# Altium footprint library DIOM794X590X262L114X305N.PcbLib: 1 footprints
Each footprint in its own frame and in the unit in brackets; x right, y up, seen from the top. Pads: shape width x height; smd on the part's side, far side on the other; paste and mask are expansions set on the pad; w line width, h text height; cw(c..) or ccw(c..) is an arc to the next point about the centre after c.
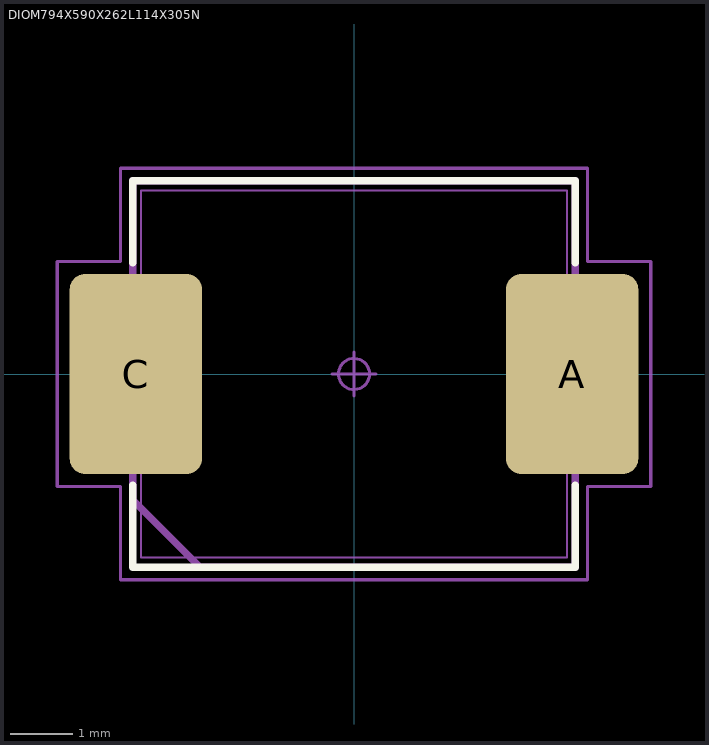
[diagram p0: the footprint, top view; thin cyan lines are the x and y axes]

## DIOM794X590X262L114X305N [mm] "Diode, Molded Body; 6.855 mm L X 5.905 mm W X 2.62 mm H body"
height 2.62
pads (2):
  rrect23% 2.13x3.22 smd: A(3.51,0) C(-3.51,0)
Top Overlay:
  lines w0.12: -3.56,-1.79 -3.56,-3.11 3.56,-3.11 3.56,-1.79 ; -3.56,1.79 -3.56,3.11 3.56,3.11 3.56,1.79
Mechanical 3:
  lines w0.12: -3.56,-2.028 -3.56,3.11 3.56,3.11 3.56,-3.11 -2.478,-3.11 -3.56,-2.028
Mechanical 5:
  lines w0.025: -3.97,-1.525 -3.97,1.525 -2.83,1.525 -2.83,-1.525 -3.97,-1.525 ; -3.427,-2.953 3.427,-2.953 3.427,2.953 -3.427,2.953 -3.427,-2.953 ; 2.83,-1.525 3.97,-1.525 3.97,1.525 2.83,1.525 2.83,-1.525
Mechanical 7:
  circle w0.05: c0,0 r0.25
  lines w0.05: -0.35,0 0.35,0 ; 0,-0.35 0,0.35 ; -4.775,-1.81 -3.76,-1.81 -3.76,-3.31 3.76,-3.31 3.76,-1.81 4.775,-1.81 4.775,1.81 3.76,1.81 3.76,3.31 -3.76,3.31 -3.76,1.81 -4.775,1.81 -4.775,-1.81
Mechanical 9:
  text "'.Designator'" at -5.817,-2.303 h1.02
3D body "DIOM794X590X262L114X305.STEP": height 2.62, standoff 0, extent -3.97,-2.953 3.97,2.953
3D body: height 0.25, standoff 0, extent -4.775,-3.31 4.775,3.31